# Altium schematic symbol library BTS7002-1EPP.SchLib: 1 symbol
Pins are listed as number, name and electrical type; pins without a type are passive.

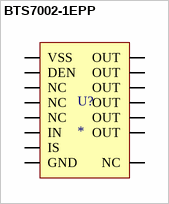
[diagram p0: symbol BTS7002-1EPP]

## BTS7002-1EPP
designator U?
pins: 1 GND, 2 IN, 3 DEN, 4 IS, 5 NC, 6 NC, 7 NC, 8 OUT, 9 OUT, 10 OUT, 11 NC, 12 OUT, 13 OUT, 14 OUT, 15 VSS